# Altium footprint library PCB.PCBLIB: 320 footprints (part 6 of 20)
Each footprint in its own frame and in the unit in brackets; x right, y up, seen from the top. Pads: shape width x height; smd on the part's side, far side on the other; paste and mask are expansions set on the pad; w line width, h text height; cw(c..) or ccw(c..) is an arc to the next point about the centre after c.
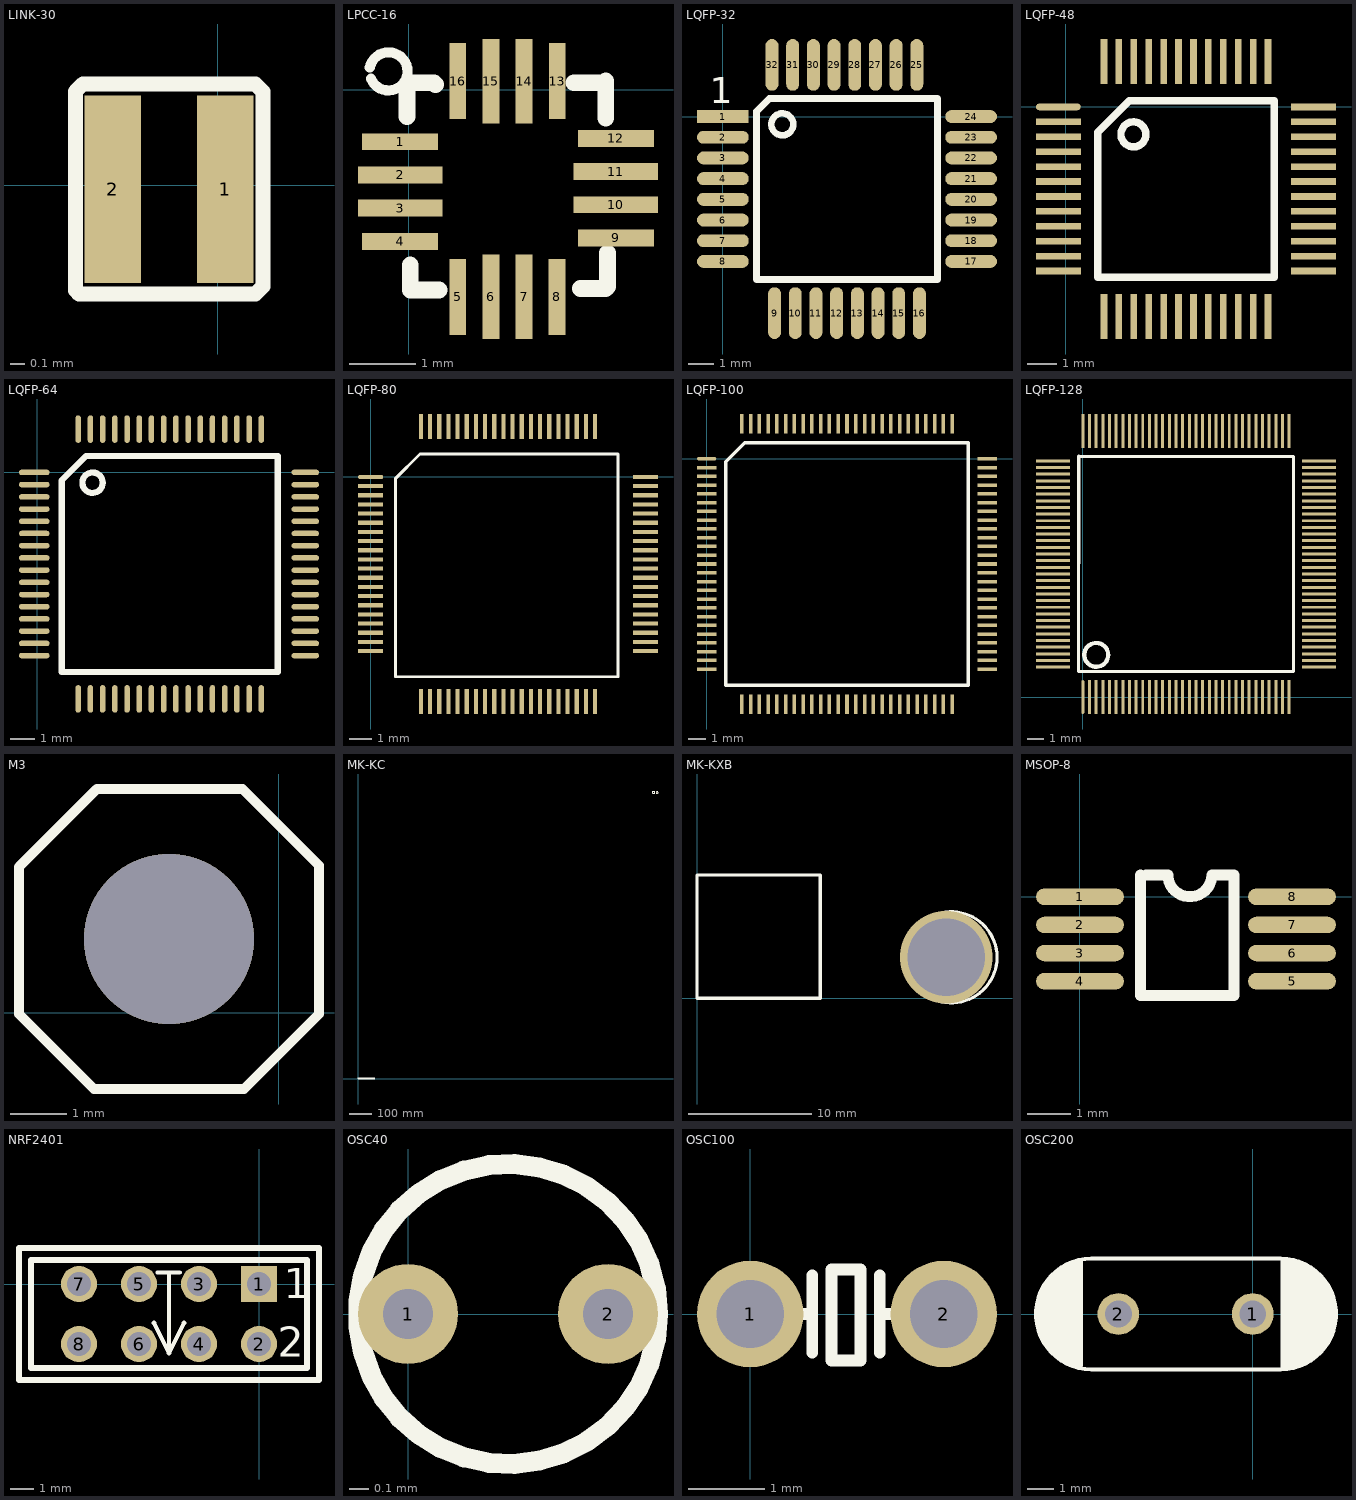
[diagram p5: the footprints below, top view; thin cyan lines are the x and y axes]

## LINK-30 [mil]
pads (2):
  rect 15x50 smd: 1(2,-1) 2(-28,-1)
TopOverlay:
  lines w4: -38,-28 -37,-29 10,-29 12,-27 12,25 10,27 -36,27 -38,25 -38,-28

## LPCC-16 [mil]
pads (16):
  rect 45x10 smd: 1(-5,-31) 4(-5,-90.06) 9(123,-88) 12(123,-29)
  rect 50x10 smd: 2(-5,-50.69) 3(-5,-70.37) 10(123,-68.37) 11(123,-48.69)
  rect 10x45 smd: 5(29.19,-123) 8(88,-123) 13(88.25,5) 16(29.19,5)
  rect 10x50 smd: 6(48.88,-123) 7(68.56,-123) 14(68.56,5) 15(48.88,5)
TopOverlay:
  lines w6: -23,13 cw(c-11.91,10.78) -22.35,6.43
  lines w10: -1,-16 -1,3 ; 0,4 15,4 16,3 ; 1,-104 1,-119 18,-119 ; 98,4 116,4 117,5 117,-17 ; 102,-118 117,-118 118,-117 118,-97

## LQFP-32 [mm]
pads (32):
  rect 2x0.5 smd: 1(0,0)
  oval 2x0.5 smd: 2(0,-0.8) 3(0,-1.6) 4(0,-2.4) 5(0,-3.2) 6(0,-4) 7(0,-4.8) 8(0,-5.6) 17(9.6,-5.6) 18(9.6,-4.8) 19(9.6,-4) 20(9.6,-3.2) 21(9.6,-2.4) 22(9.6,-1.6) 23(9.6,-0.8) 24(9.6,0)
  oval 0.5x2 smd: 9(2,-7.6) 10(2.8,-7.6) 11(3.6,-7.6) 12(4.4,-7.6) 13(5.2,-7.6) 14(6,-7.6) 15(6.8,-7.6) 16(7.6,-7.6) 25(7.5,2) 26(6.7,2) 27(5.9,2) 28(5.1,2) 29(4.3,2) 30(3.5,2) 31(2.7,2) 32(1.9,2)
TopOverlay:
  circle w0.254: c2.3,-0.3 r0.424
  lines w0.254: 1.3,-6.3 8.3,-6.3 8.3,0.7 1.8,0.7 1.3,0.2 1.3,-6.3
  text "1" at -0.508,0.508 h1.02

## LQFP-48 [mil]
pads (48):
  oval 60x9 smd: 1(-10,0)
  rect 60x9 smd: 2(-10,-20) 3(-10,-40) 4(-10,-60) 5(-10,-80) 6(-10,-100) 7(-10,-120) 8(-10,-140) 9(-10,-160) 10(-10,-180) 11(-10,-200) 12(-10,-220) 25(332,-220) 26(332,-200) 27(332,-180) 28(332,-160) 29(332,-140) 30(332,-120) 31(332,-100) 32(332,-80) 33(332,-60) 34(332,-40) 35(332,-20) 36(332,0)
  rect 9x60 smd: 13(51,-281) 14(71,-281) 15(91,-281) 16(111,-281) 17(131,-281) 18(151,-281) 19(171,-281) 20(191,-281) 21(211,-281) 22(231,-281) 23(251,-281) 24(271,-281) 37(271,61) 38(251,61) 39(231,61) 40(211,61) 41(191,61) 42(171,61) 43(151,61) 44(131,61) 45(111,61) 46(91,61) 47(71,61) 48(51,61)
TopOverlay:
  circle w10: c90.55,-36.81 r16.7
  lines w10: 42.5,-228.5 42.5,-34 85,8.5 279.5,8.5 279.5,-228.5 42.5,-228.5

## LQFP-64 [mil]
pads (64):
  oval 50x9 smd: 1(-5,0) 2(-5,-20) 3(-5,-40) 4(-5,-60) 5(-5,-80) 6(-5,-100) 7(-5,-120) 8(-5,-140) 9(-5,-160) 10(-5,-180) 11(-5,-200) 12(-5,-220) 13(-5,-240) 14(-5,-260) 15(-5,-280) 16(-5,-300)
  oval 9x45 smd: 17(67,-371) 18(87,-371) 19(107,-371) 20(127,-371) 21(147,-371) 22(167,-371) 23(187,-371) 24(207,-371) 25(227,-371) 26(247,-371) 27(267,-371) 28(287,-371) 29(307,-371) 30(327,-371) 31(347,-371) 32(367,-371) 49(367,71) 50(347,71) 51(327,71) 52(307,71) 53(287,71) 54(267,71) 55(247,71) 56(227,71) 57(207,71) 58(187,71) 59(167,71) 60(147,71) 61(127,71) 62(107,71) 63(87,71) 64(67,71)
  oval 45x9 smd: 33(439,-300) 34(439,-280) 35(439,-260) 36(439,-240) 37(439,-220) 38(439,-200) 39(439,-180) 40(439,-160) 41(439,-140) 42(439,-120) 43(439,-100) 44(439,-80) 45(439,-60) 46(439,-40) 47(439,-20) 48(439,0)
TopOverlay:
  circle w10: c90.55,-16.81 r16.7
  lines w10: 40,-327 394,-327 394,27 80,27 40,-13 40,-327

## LQFP-80 [mm]
pads (80):
  oval 1.1x0.18 smd: 1(0,0)
  rect 1.1x0.18 smd: 2(0,-0.4) 3(0,-0.8) 4(0,-1.2) 5(0,-1.6) 6(0,-2) 7(0,-2.4) 8(0,-2.8) 9(0,-3.2) 10(0,-3.6) 11(0,-4) 12(0,-4.4) 13(0,-4.8) 14(0,-5.2) 15(0,-5.6) 16(0,-6) 17(0,-6.4) 18(0,-6.8) 19(0,-7.2) 20(0,-7.6) 41(12,-7.6) 42(12,-7.2) 43(12,-6.8) 44(12,-6.4) 45(12,-6) 46(12,-5.6) 47(12,-5.2) 48(12,-4.8) 49(12,-4.4) 50(12,-4) 51(12,-3.6) 52(12,-3.2) 53(12,-2.8) 54(12,-2.4) 55(12,-2) 56(12,-1.6) 57(12,-1.2) 58(12,-0.8) 59(12,-0.4) 60(12,0)
  rect 0.18x1.1 smd: 21(2.2,-9.8) 22(2.6,-9.8) 23(3,-9.8) 24(3.4,-9.8) 25(3.8,-9.8) 26(4.2,-9.8) 27(4.6,-9.8) 28(5,-9.8) 29(5.4,-9.8) 30(5.8,-9.8) 31(6.2,-9.8) 32(6.6,-9.8) 33(7,-9.8) 34(7.4,-9.8) 35(7.8,-9.8) 36(8.2,-9.8) 37(8.6,-9.8) 38(9,-9.8) 39(9.4,-9.8) 40(9.8,-9.8) 61(9.8,2.2) 62(9.4,2.2) 63(9,2.2) 64(8.6,2.2) 65(8.2,2.2) 66(7.8,2.2) 67(7.4,2.2) 68(7,2.2) 69(6.6,2.2) 70(6.2,2.2) 71(5.8,2.2) 72(5.4,2.2) 73(5,2.2) 74(4.6,2.2) 75(4.2,2.2) 76(3.8,2.2) 77(3.4,2.2) 78(3,2.2) 79(2.6,2.2) 80(2.2,2.2)
TopOverlay:
  lines w0.127: 1.079,-8.725 10.808,-8.725 10.808,1.003 2.159,1.003 1.079,-0.076 1.079,-8.725

## LQFP-100 [mm]
pads (100):
  oval 1.1x0.2 smd: 1(0,0)
  rect 1.1x0.2 smd: 2(0,-0.5) 3(0,-1) 4(0,-1.5) 5(0,-2) 6(0,-2.5) 7(0,-3) 8(0,-3.5) 9(0,-4) 10(0,-4.5) 11(0,-5) 12(0,-5.5) 13(0,-6) 14(0,-6.5) 15(0,-7) 16(0,-7.5) 17(0,-8) 18(0,-8.5) 19(0,-9) 20(0,-9.5) 21(0,-10) 22(0,-10.5) 23(0,-11) 24(0,-11.5) 25(0,-12) 51(16,-12) 52(16,-11.5) 53(16,-11) 54(16,-10.5) 55(16,-10) 56(16,-9.5) 57(16,-9) 58(16,-8.5) 59(16,-8) 60(16,-7.5) 61(16,-7) 62(16,-6.5) 63(16,-6) 64(16,-5.5) 65(16,-5) 66(16,-4.5) 67(16,-4) 68(16,-3.5) 69(16,-3) 70(16,-2.5) 71(16,-2) 72(16,-1.5) 73(16,-1) 74(16,-0.5) 75(16,0)
  rect 0.2x1.1 smd: 26(2,-14) 27(2.5,-14) 28(3,-14) 29(3.5,-14) 30(4,-14) 31(4.5,-14) 32(5,-14) 33(5.5,-14) 34(6,-14) 35(6.5,-14) 36(7,-14) 37(7.5,-14) 38(8,-14) 39(8.5,-14) 40(9,-14) 41(9.5,-14) 42(10,-14) 43(10.5,-14) 44(11,-14) 45(11.5,-14) 46(12,-14) 47(12.5,-14) 48(13,-14) 49(13.5,-14) 50(14,-14) 76(14,2) 77(13.5,2) 78(13,2) 79(12.5,2) 80(12,2) 81(11.5,2) 82(11,2) 83(10.5,2) 84(10,2) 85(9.5,2) 86(9,2) 87(8.5,2) 88(8,2) 89(7.5,2) 90(7,2) 91(6.5,2) 92(6,2) 93(5.5,2) 94(5,2) 95(4.5,2) 96(4,2) 97(3.5,2) 98(3,2) 99(2.5,2) 100(2,2)
TopOverlay:
  lines w0.2: 1.085,-12.915 1.085,-0.17 2.17,0.915 14.915,0.915 14.915,-12.915 1.085,-12.915

## LQFP-128 [mil]
pads (128):
  oval 7x80 smd: 1(0,0)
  rect 7x80 smd: 2(15.75,0) 3(31.5,0) 4(47.24,0) 5(62.99,0) 6(78.74,0) 7(94.49,0) 8(110.24,0) 9(125.98,0) 10(141.73,0) 11(157.48,0) 12(173.23,0) 13(188.98,0) 14(204.72,0) 15(220.47,0) 16(236.22,0) 17(251.97,0) 18(267.72,0) 19(283.46,0) 20(299.21,0) 21(314.96,0) 22(330.71,0) 23(346.46,0) 24(362.2,0) 25(377.95,0) 26(393.7,0) 27(409.45,0) 28(425.2,0) 29(440.94,0) 30(456.69,0) 31(472.44,0) 32(488.19,0) 65(488.19,629.92) 66(472.44,629.92) 67(456.69,629.92) 68(440.94,629.92) 69(425.2,629.92) 70(409.45,629.92) 71(393.7,629.92) 72(377.95,629.92) 73(362.2,629.92) 74(346.46,629.92) 75(330.71,629.92) 76(314.96,629.92) 77(299.21,629.92) 78(283.46,629.92) 79(267.72,629.92) 80(251.97,629.92) 81(236.22,629.92) 82(220.47,629.92) 83(204.72,629.92) 84(188.98,629.92) 85(173.23,629.92) 86(157.48,629.92) 87(141.73,629.92) 88(125.98,629.92) 89(110.24,629.92) 90(94.49,629.92) 91(78.74,629.92) 92(62.99,629.92) 93(47.24,629.92) 94(31.5,629.92) 95(15.75,629.92) 96(0,629.92)
  rect 80x7 smd: 33(559.05,70.87) 34(559.05,86.61) 35(559.05,102.36) 36(559.05,118.11) 37(559.05,133.86) 38(559.05,149.61) 39(559.05,165.35) 40(559.05,181.1) 41(559.05,196.85) 42(559.05,212.6) 43(559.05,228.35) 44(559.05,244.09) 45(559.05,259.84) 46(559.05,275.59) 47(559.05,291.34) 48(559.05,307.09) 49(559.05,322.83) 50(559.05,338.58) 51(559.05,354.33) 52(559.05,370.08) 53(559.05,385.83) 54(559.05,401.57) 55(559.05,417.32) 56(559.05,433.07) 57(559.05,448.82) 58(559.05,464.57) 59(559.05,480.31) 60(559.05,496.06) 61(559.05,511.81) 62(559.05,527.56) 63(559.05,543.31) 64(559.05,559.05) 97(-70.87,559.05) 98(-70.87,543.31) 99(-70.87,527.56) 100(-70.87,511.81) 101(-70.87,496.06) 102(-70.87,480.31) 103(-70.87,464.57) 104(-70.87,448.82) 105(-70.87,433.07) 106(-70.87,417.32) 107(-70.87,401.57) 108(-70.87,385.83) 109(-70.87,370.08) 110(-70.87,354.33) 111(-70.87,338.58) 112(-70.87,322.83) 113(-70.87,307.09) 114(-70.87,291.34) 115(-70.87,275.59) 116(-70.87,259.84) 117(-70.87,244.09) 118(-70.87,228.35) 119(-70.87,212.6) 120(-70.87,196.85) 121(-70.87,181.1) 122(-70.87,165.35) 123(-70.87,149.61) 124(-70.87,133.86) 125(-70.87,118.11) 126(-70.87,102.36) 127(-70.87,86.61) 128(-70.87,70.87)
TopOverlay:
  circle w10: c31.72,100 r28.28
  lines w7.87: -10.43,60.43 -10,570 498.62,569.49 498.62,60.43 -10.43,60.43

## M3 [mil]
via -76,51 diameter 118.11 hole 118.11
TopOverlay:
  lines w7: -180,-1 -128,-53 -24,-53 28,-1 28,102 -25,155 -126,155 -180,101 -180,99 -180,-1

## MK-KC [mm]
pads (2):
  rect 75x0.508 smd: 0(37.5,0.5)
  rect 75x0.508 smd far side: 1(37.5,0.5)
via 1331.417,1272.692 diameter 7.5 hole 6.3
TopOverlay:
  circle w0.254: c1331.849,1272.692 r3.7
  lines w0.254: 0,2.997 75,2.997 ; 0,3 0,0 75,0 ; 74.981,0 74.981,3 ; 1311.199,1269.365 1321.199,1269.365 1321.199,1279.365 1311.199,1279.365 1311.199,1269.365

## MK-KXB [mil]
via 796,131 diameter 295.28 hole 248.03
TopOverlay:
  circle w10: c813.02,131 r145.67
  lines w10: 0,0 0,393.7 393.7,393.7 393.7,0 0,0

## MSOP-8 [mm]
pads (8):
  oval 2.032x0.38 smd: 1(0,0) 2(0,-0.65) 3(0,-1.3) 4(0,-1.95) 5(4.9,-1.95) 6(4.9,-1.3) 7(4.9,-0.65) 8(4.9,0)
TopOverlay:
  lines w0.254: 1.397,0.508 1.397,-2.286 3.556,-2.286 3.556,0.508 3.048,0.508 cw(c2.54,0.508) 2.032,0.508 1.524,0.508

## NRF2401 [mil]
pads (8):
  rect 60x60 hole 40: 1(0,0)
  round 60 hole 40: 2(0,-100) 3(-100,0) 4(-100,-100) 5(-200,0) 6(-200,-100) 7(-300,0) 8(-300,-100)
TopOverlay:
  lines w7: -169,19 -132,19 ; -150,-115 -150,19 ; -150,-106 -149,-107
  lines w8: -175,-65 -150,-115 -125,-65
  lines w10: -400,-160 100,-160 100,60 -400,60 -400,-160 ; -380,-140 -380,40 80,40 80,-140 -380,-140
  text "2" at 31,-121 h50
  text "1" at 41,-24 h50

## OSC40 [mil]
pads (2):
  round 20 hole 10: 1(0,0) 2(40,0)
TopOverlay:
  circle w4: c20,0 r30

## OSC100 [mil]
pads (2):
  round 55 hole 35: 1(0,0) 2(100,0)
TopOverlay:
  lines w6: 20,0 32,0 ; 32,-20 32,20 ; 57,22 57,-24 42,-24 42,23 57,23 ; 67,-20 67,20 ; 67,0 80,0

## OSC200 [mil]
pads (2):
  round 62 hole 40: 1(0,0) 2(-200,0)
TopOverlay:
  region: 87.98,71 76.98,71 76.98,-70 87.98,-70
  region: 78.98,75 68.98,75 68.98,-75 78.98,-75
  region: 58,81 41.34,81 41.34,-82.68 58,-82.68
  region: 69.98,81 57.98,81 57.98,-78 69.98,-78
  region: -264.02,74 -280.02,74 -280.02,-73 -264.02,-73
  region: -253.02,79 -273.02,79 -273.02,-78 -253.02,-78
  lines w6: -240,-82.68 cw(c-240,0) -240,82.68 41.34,82.68 cw(c41.34,0) 41.34,-82.68 -240,-82.68
  lines w10: -317,-24 -317,23 -311,29 -311,-37 -308,-40 -308,43 -302,49 -302,-46 -298,-50 -298,54 -294,58 -294,-55 -289,-60 -289,57 -290,58 -290,59 -283,66 -283,-61 ; 88,-60 90,-58 90,63 91,63 97,57 97,-54 96,-55 100,-51 100,49 111,38 106,33 106,-43 112,-37 112,-33 112,30 118,24 118,-25 ; -283,-61 -280,-64 -283,-61